# Altium schematic symbol library INV_LIB_SH.SchLib: 1 symbol
Pins are listed as number, name and electrical type; pins without a type are passive.

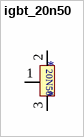
[diagram p0: symbol igbt_20n50]

## igbt_20n50
designator *
footprint 20N50_S
footprint 20N50_S
pins: 1 G, 2 C, 3 E
text: 20N50